# EAGLE library part TPS22969DNYT (library TPS22969DNYT)
5.5V, 6A, 4.4m Load Switch with Quick Output Discharge Source: Datasheet <http://www.ti.com/lit/gpn/TPS22969>
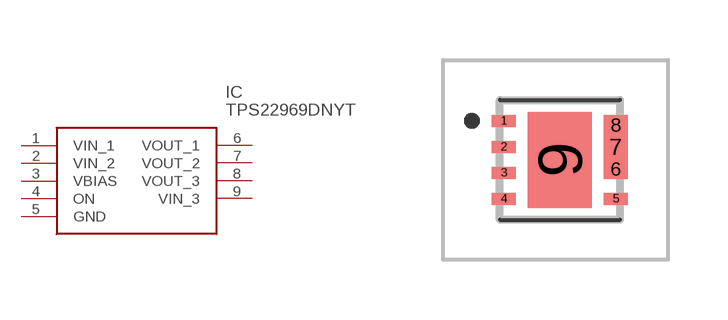
[diagram p0: symbol with the pads of TPS22969DNYT; footprint TPS22969DNYT]

Designator prefix IC

## TPS22969DNYT (Description: 5.5V, 6A, 4.4m Load Switch with Quick Output Discharge; Height: 0.8mm; Manufacturer_Name: Texas Instruments; Manufacturer_Part_Number: TPS22969DNYT; Mouser_Part_Number: 595-TPS22969DNYT; Mouser_Price-Stock: https://www.mouser.com/Search/Refine.aspx?Keyword=595-TPS22969DNYT)  [TPS22969DNYT]
1  VIN_1
2  VIN_2
3  VBIAS
4  ON
5  GND
6  VOUT_1
7  VOUT_2
8  VOUT_3
9  VIN_3

## Footprint TPS22969DNYT (pad centres in mm)
TPS22969DNYT
smd 0.6 x 0.3: 1 -1.4,0.975; 2 -1.4,0.325; 3 -1.4,-0.325; 4 -1.4,-0.975; 5 1.399,-0.975
smd 0.6 x 0.5: 6 1.399,-0.225; 8 1.399,0.875
smd 0.6 x 0.6: 7 1.399,0.325
smd 1.6 x 2.4: 9 0,0